# Altium integrated library TSR_1-2450.IntLib: 1 symbol
Pins are listed as number, name and electrical type; pins without a type are passive.

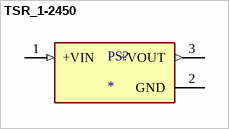
[diagram p0: symbol TSR_1-2450]

## TSR_1-2450
designator PS?
MF: Traco Power; MP: TSR_1-2450; Value: *; Availability: Unavailable; Price: None; Package: None
footprint CONV_TSR_1-2450
pins: 1 +VIN (in), 2 GND (power), 3 +VOUT (out)